# EAGLE library part CON_01X08 (library Athena-A1)
Library: MF_Connectors Description: Header Connector with 8 Positions and 01 Rows. Use the LABEL Attribute to label the pin on the schematic and PCB. You can remove the attributes on the PCB by using the SMASH function on the part and then deleting the text.
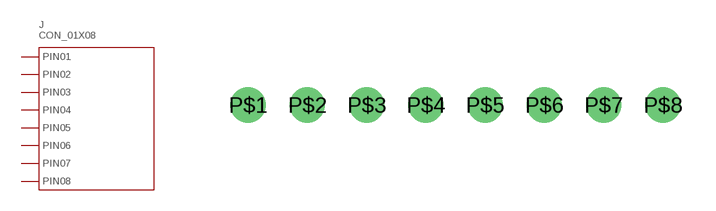
[diagram p6: symbol with the pads of PTH_2.54MM_01X08; footprint PTH_2.54MM_01X08]

Designator prefix J

## CON_01X08_PTH_2.54MM (HOUSEPART: YES; MPN: MF-CON-2.54mm-01x08; POPULATE: 1; URL: https://factory.macrofab.com/part/MF-CON-2.54mm-01x08; VALUE: MF-CON-2.54mm-01x08)  [PTH_2.54MM_01X08]
P$1  PIN1
P$2  PIN2
P$3  PIN3
P$4  PIN4
P$5  PIN5
P$6  PIN6
P$7  PIN7
P$8  PIN8

## Footprint PTH_2.54MM_01X08 (pad centres in mm)
Description: Package for 2.54MM Pitch Header 8 Position. Based on 4UCON 00834.
drill 1: P$1 -8.89,0; P$2 -6.35,0; P$3 -3.81,0; P$4 -1.27,0; P$5 1.27,0; P$6 3.81,0; P$7 6.35,0; P$8 8.89,0